# Altium footprint library PCB_Ticketing_Slave.PcbLib: 18 footprints (part 2 of 2)
Each footprint in its own frame and in the unit in brackets; x right, y up, seen from the top. Pads: shape width x height; smd on the part's side, far side on the other; paste and mask are expansions set on the pad; w line width, h text height; cw(c..) or ccw(c..) is an arc to the next point about the centre after c.
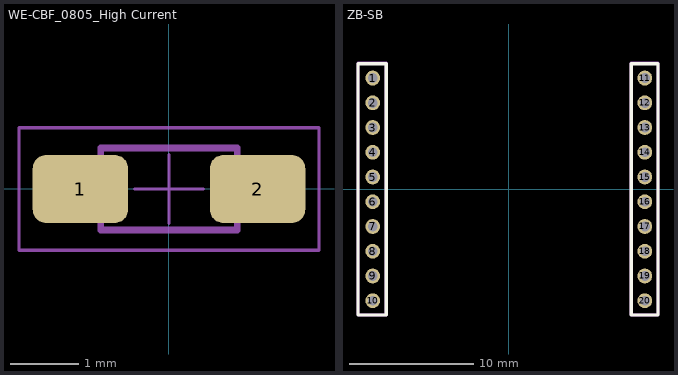
[diagram p1: the footprints below, top view; thin cyan lines are the x and y axes]

## WE-CBF_0805_High Current [mm]
pads (2):
  rrect40% 1.4x1 smd: 1(-1.3,0) 2(1.3,0)
Top 3D Body:
  lines w0.1: -1,-0.6 1,-0.6 1,0.6 -1,0.6 -1,-0.6
Top Courtyard:
  lines w0.05: -0.5,0 0.5,0 ; 0,-0.5 0,0.5 ; -2.2,-0.9 -2.2,0.9 2.2,0.9 2.2,-0.9 -2.2,-0.9
3D body "WE-CBF_0805_CBF.stp": height 0.9, standoff 0, extent -1,-0.6 1,0.6

## ZB-SB [mm] "Header"
height 3.5
pads (20):
  round 1.2 hole 0.8: 1(-11,9) 2(-11,7) 3(-11,5) 4(-11,3) 5(-11,1) 6(-11,-1) 7(-11,-3) 8(-11,-5) 9(-11,-7) 10(-11,-9) 11(11,9) 12(11,7) 13(11,5) 14(11,3) 15(11,1) 16(11,-1) 17(11,-3) 18(11,-5) 19(11,-7) 20(11,-9)
Top Overlay:
  lines w0.254: -12.192,-10.16 -12.192,10.16 -10.922,10.16 -9.906,10.16 -9.906,-10.16 -12.192,-10.16 ; 9.906,-10.16 9.906,10.16 12.065,10.16 12.065,-10.16 9.906,-10.16
Mechanical 13:
  lines w0.254: -12.192,-10.16 -12.192,10.224 -9.906,10.224 -9.906,-10.16 -12.192,-10.16 ; 9.906,-10.16 9.906,10.224 12.065,10.224 12.065,-10.16 9.906,-10.16
3D body: height 6, standoff 0, extent -12.065,-10.224 -10.033,10.16
3D body: height 6, standoff 0, extent 10.033,-10.224 12.065,10.16
3D body "Xbee.STEP": height 7.5, standoff 0.1, extent -12.554,-10.34 12.446,30.66